# Altium schematic symbol library RES.SchLib: 1 symbol
Pins are listed as number, name and electrical type; pins without a type are passive.

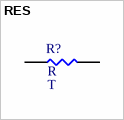
[diagram p0: symbol RES]

## RES
designator R?  Tolerance: T  Resistance: R
=Description; ComponentLink1Description: Datasheet
pins: 1, 2